# EAGLE library part MINI-USB-5P (library OPL)
SMD Mini USB
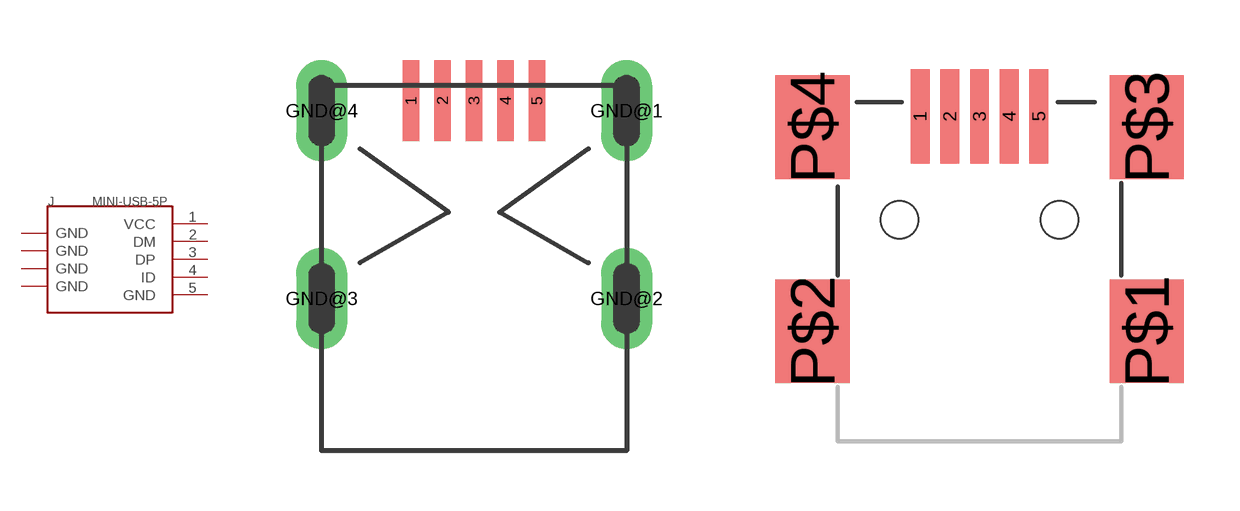
[diagram p11: symbol with the pads of MINI-B-5P-SMD; footprints MINI-B-5P-SMD, MINI-B-SMD]

Designator prefix J

## MINI-USB-5P-3400030P1  [MINI-B-5P-SMD]
1  VCC
2  DM
3  DP
4  ID
5  GND
GND@1  GND
GND@2  GND
GND@3  GND
GND@4  GND

## MINI-USB-5P-3400020P1  [MINI-B-SMD]
1  VCC
2  DM
3  DP
4  ID
5  GND
P$1  GND
P$2  GND
P$3  GND
P$4  GND

## Footprint MINI-B-5P-SMD (pad centres in mm)
smd 0.406 x 2.032: 1 -1.575,4.191; 2 -0.787,4.191; 3 0,4.191; 4 0.787,4.191; 5 1.575,4.191
drill 0.635 pad 1.27 long: GND@1 3.81,3.937; GND@2 3.81,-0.762; GND@3 -3.81,-0.762; GND@4 -3.81,3.937

## Footprint MINI-B-SMD (pad centres in mm)
USB Series Mini-B Surface Mounted
smd 0.508 x 2.54: 1 -1.6,4.191; 2 -0.8,4.191; 3 0,4.191; 4 0.8,4.191; 5 1.6,4.191
smd 2 x 2.794: P$1 4.5,-1.603; P$2 -4.5,-1.603; P$3 4.5,3.897; P$4 -4.5,3.897
hole 1.016 at -2.159,1.397
hole 1.016 at 2.159,1.397